# Altium footprint library JFD_Con.PcbLib: 8 footprints
Each footprint in its own frame and in the unit in brackets; x right, y up, seen from the top. Pads: shape width x height; smd on the part's side, far side on the other; paste and mask are expansions set on the pad; w line width, h text height; cw(c..) or ccw(c..) is an arc to the next point about the centre after c.
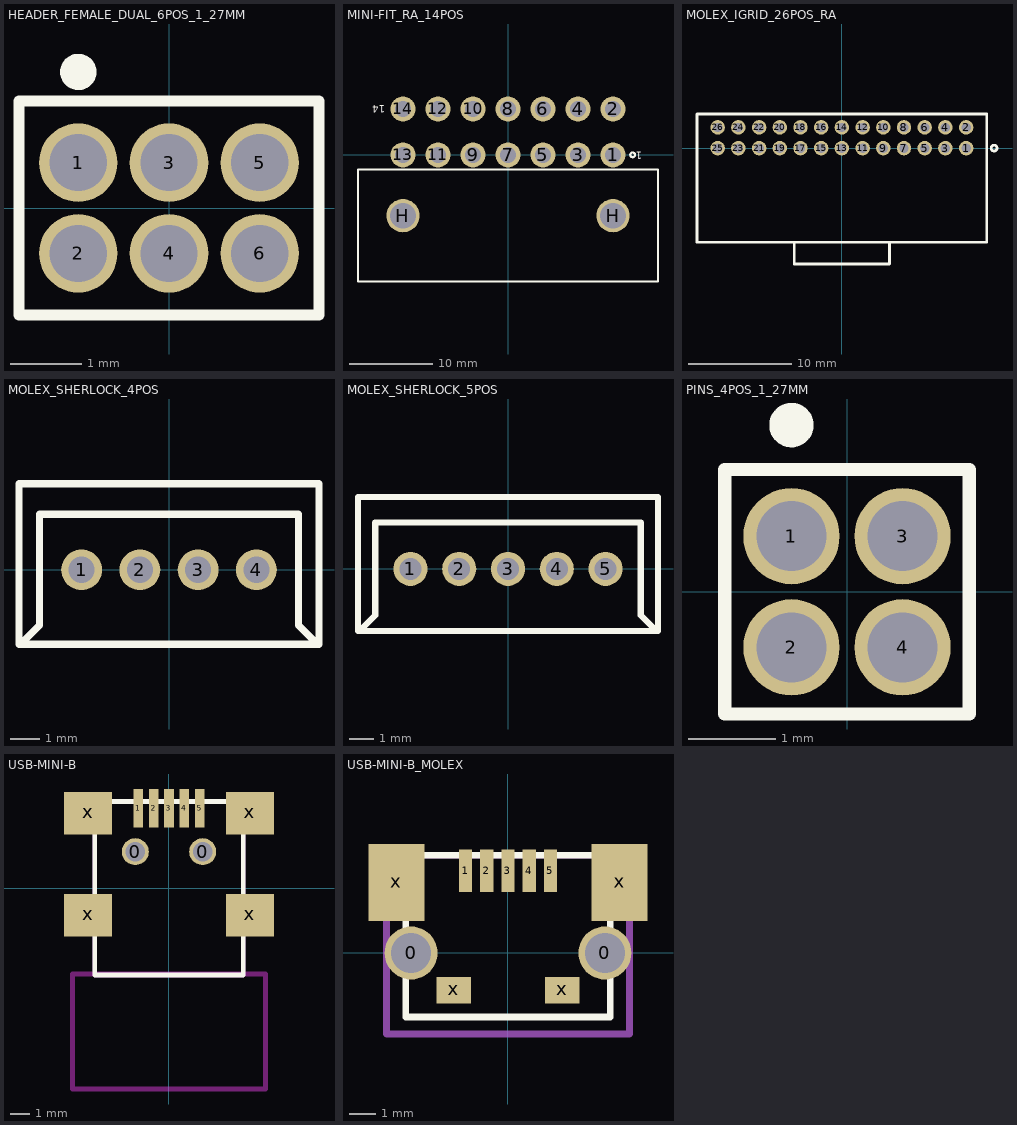
[diagram p0: the footprints below, top view; thin cyan lines are the x and y axes]

## HEADER_FEMALE_DUAL_6POS_1_27MM [mm]
height 4.4
pads (6):
  round 1.1 hole 0.8 mask+0.05: 1(-1.27,0.635) 2(-1.27,-0.635) 3(0,0.635) 4(0,-0.635) 5(1.27,0.635) 6(1.27,-0.635)
Top Overlay:
  circle w0.254: c-1.27,1.905 r0.127
  lines w0.152: -2.1,-1.5 2.1,-1.5 2.1,1.5 -2.1,1.5 -2.1,-1.5
3D body: height 4.4, standoff -3, extent -2.095,-1.525 2.095,1.525

## MINI-FIT_RA_14POS [mm]
height 15
pads (16):
  round 3 hole 1.9: 1(12.6,0) 2(12.6,5.51) 3(8.4,0) 4(8.4,5.51) 5(4.2,0) 6(4.2,5.51) 7(0,0) 8(0,5.51) 9(-4.2,0) 10(-4.2,5.51) 11(-8.4,0) 12(-8.4,5.51) 13(-12.6,0) 14(-12.6,5.51)
  round 4 hole 3.1: H(-12.6,-7.3) H(12.6,-7.3)
Top Overlay:
  circle w0.254: c14.956,0 r0.284
  lines w0.254: -18,-15.2 -18,-1.778 18,-1.778 18,-15.2 -18,-15.2
  text "14" at -14.732,5.969 h0.89
  text "1" at 16.129,0.381 h0.89
Bottom Overlay:
  text "14" at -16.002,5.969 h0.89
  text "1" at 15.875,0.381 h0.89
3D body: height 15, standoff -3.6, extent -17.907,-15.129 18.093,6.096

## MOLEX_IGRID_26POS_RA [mm]
height 8.3
pads (26):
  round 1.4 hole 0.9: 1(12,0) 2(12,2) 3(10,0) 4(10,2) 5(8,0) 6(8,2) 7(6,0) 8(6,2) 9(4,0) 10(4,2) 11(2,0) 12(2,2) 13(0,0) 14(0,2) 15(-2,0) 16(-2,2) 17(-4,0) 18(-4,2) 19(-6,0) 20(-6,2) 21(-8,0) 22(-8,2) 23(-10,0) 24(-10,2) 25(-12,0) 26(-12,2)
Top Overlay:
  circle w0.254: c14.702,0 r0.284
  lines w0.254: -4.6,-9.1 -4.6,-11.2 4.6,-11.2 4.6,-9.1 ; -14,-9.1 -14,3.3 14,3.3 14,-9.1 -14,-9.1
Bottom Overlay:
  text "26" at -14.605,2.413 h0.89
  text "1" at 13.335,0.508 h0.89
3D body: height 8.25, standoff -3.25, extent -14,-11.244 14,3.256

## MOLEX_SHERLOCK_4POS [mm]
height 8.5
pads (4):
  round 1.4 hole 0.9: 1(-3,0) 2(-1,0) 3(1,0) 4(3,0)
Top Overlay:
  lines w0.254: -5.08,-2.54 -4.445,-1.905 -4.445,1.905 4.445,1.905 4.445,-1.905 5.08,-2.54 ; -5.15,-2.55 5.15,-2.55 5.15,2.95 -5.15,2.95 -5.15,-2.55
3D body: height 8.5, standoff -3.3, extent -5.15,-2.673 5.15,2.877

## MOLEX_SHERLOCK_5POS [mm]
height 8.5
pads (5):
  round 1.4 hole 0.9: 1(-4,0) 2(-2,0) 3(0,0) 4(2,0) 5(4,0)
Top Overlay:
  lines w0.254: -6.08,-2.54 -5.445,-1.905 -5.445,1.905 5.445,1.905 5.445,-1.905 6.08,-2.54 ; -6.15,-2.55 -6.15,2.95 6.15,2.95 6.15,-2.55 -6.15,-2.55
3D body: height 8.5, standoff -3.3, extent -6.15,-2.673 6.15,2.877

## PINS_4POS_1_27MM [mm]
pads (4):
  round 1.1 hole 0.8 mask+0.05: 1(-0.635,0.635) 2(-0.635,-0.635) 3(0.635,0.635) 4(0.635,-0.635)
Top Overlay:
  circle w0.254: c-0.635,1.905 r0.127
  lines w0.152: -1.397,-1.397 -1.397,1.397 1.397,1.397 1.397,-1.397 -1.397,-1.397

## USB-MINI-B [mm]
height 4
pads (11):
  round 1.4 hole 1: 0(-1.75,1.901) 0(1.75,1.901)
  rect 0.5x2 smd: 1(-1.6,4.151) 2(-0.8,4.151) 3(0,4.151) 4(0.8,4.151) 5(1.6,4.151)
  rect 2.5x2.2 smd: x(-4.2,-1.399) x(-4.2,3.901) x(4.2,-1.399) x(4.2,3.901)
Top Overlay:
  lines w0.254: -3.849,4.5 3.849,4.5 ; -3.85,4.501 -3.85,-4.499 3.85,-4.499 3.85,4.501
Keep-Out Layer:
  lines w0.254: -5,-10.414 -5,-4.445 5,-4.445 5,-10.414 -5,-10.414
Mechanical 13:
  lines w0.254: -3.849,4.5 3.849,4.5 ; -3.85,4.501 -3.85,-4.499 3.85,-4.499 3.85,4.501
3D body: height 7.7, standoff 0, extent -3.861,-4.526 3.886,4.542

## USB-MINI-B_MOLEX [mm]
height 4.3
pads (11):
  round 2 hole 1.5: 0(-3.65,0) 0(3.65,0)
  rect 0.5x1.6 smd: 1(-1.6,3.1) 2(-0.8,3.1) 3(0,3.1) 4(0.8,3.1) 5(1.6,3.1)
  rect 2.1x2.9 smd: x(-4.2,2.65) x(4.2,2.65)
  rect 1.3x1 smd: x(-2.05,-1.4) x(2.05,-1.4)
Top Overlay:
  lines w0.254: -3.85,-2.413 -3.85,3.683 3.85,3.683 3.85,-2.413 -3.85,-2.413
Mechanical 13:
  lines w0.254: -4.572,-3.048 4.572,-3.048 4.572,3.683 -4.572,3.683 -4.572,-3.048
3D body: height 4.2, standoff -0.45, extent -4.55,-3.144 4.55,3.556